# Altium schematic symbol library diodes-zener.SchLib: 7 symbols
Pins are listed as number, name and electrical type; pins without a type are passive.

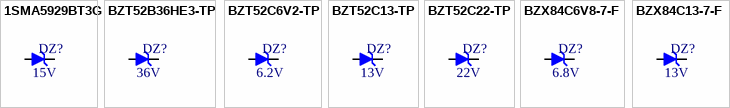
[diagram p0: symbols 1SMA5929BT3G to BZX84C13-7-F]

## 1SMA5929BT3G
designator DZ?  Volt: 15V  (hidden comment: 1SMA5929BT3G)
DIODE ZENER 15V 1.5W SMA; Precision: 5%; Grade: None; Package / Case: DO-214AC, SMA; Supplier 1: Digi-Key; Supplier Part Number 1: 1SMA5929BT3GOSCT-ND; Mounted: Yes; Watt: 1.5W; Supplier Part Number 2: 353-SMAJ5929B-TPCT-ND
footprint SMA/DO-214AC (SMA, DO-214AC. From Diode DS19005 rev 16-2)
pins: 1 A, 2 K

## BZT52B36HE3-TP
designator DZ?  Volt: 36V  (hidden comment: BZT52B36HE3-TP)
Zener Diode 36 V 410 mW ±2% Surface Mount SOD-123; Watt: 410mW; Precision: 6%; Grade: None; Package / Case: SOD-123; Supplier 1: Digi-Key; Supplier Part Number 1: 353-BZT52B36HE3-TPCT-ND; Mounted: Yes
footprint SOD-123 (SOD-123. From Diodes DDZ6V2B-7 datasheet)
pins: 1 A, 2 K

## BZT52C6V2-TP
designator DZ?  Volt: 6.2V  (hidden comment: BZT52C6V2-TP)
Zener Diode 6.2 V 200 mW ±6% Surface Mount SOD-123; Watt: 200mW; Grade: None; Package / Case: SOD-123; Supplier 1: Digi-Key; Supplier Part Number 1: BZT52C13-TPMSCT-ND; Mounted: Yes; Precision: 6%
footprint SOD-123 (SOD-123. From Diodes DDZ6V2B-7 datasheet)
pins: 1 A, 2 K

## BZT52C13-TP
designator DZ?  Volt: 13V  (hidden comment: BZT52C13-TP)
Zener Diode 13 V 200 mW ±6% Surface Mount SOD-123; Watt: 200mW; Grade: None; Package / Case: SOD-123; Supplier 1: Digi-Key; Supplier Part Number 1: BZT52C13-TPMSCT-ND; Mounted: Yes; Precision: 6%
footprint SOD-123 (SOD-123. From Diodes DDZ6V2B-7 datasheet)
pins: 1 A, 2 K

## BZT52C22-TP
designator DZ?, comment Volt: 22V  (hidden comment: BZT52C13-TP)
Zener Diode 22V 200 mW ±6% Surface Mount SOD-123; Watt: 200mW; Grade: None; Package / Case: SOD-123; Supplier 1: Digi-Key; Supplier Part Number 1: 353-MMSZ5251BHE3-TPCT-ND; Mounted: Yes; Precision: 6%
footprint SOD-123 (SOD-123. From Diodes DDZ6V2B-7 datasheet)
pins: 1 A, 2 K

## BZX84C6V8-7-F
designator DZ?  Volt: 6.8V  (hidden comment: BZX84C6V8-7-F)
Zener Diode 6.8 V 300 mW ±6% Surface Mount SOT-23-3; Watt: 300mW; Grade: None; Package / Case: SOT-23-3; Supplier 1: Digi-Key; Supplier Part Number 1: BZX84C6V8-FDICT-ND; Mounted: Yes; Precision: 6%
footprint SOT-23-3 (SOT23-3, from TI DBZ (R-PDSO-G3))
pins: 1 A, 3 K

## BZX84C13-7-F
designator DZ?  Volt: 13V  (hidden comment: BZX84C13-7-F)
Zener Diode 13 V 300 mW ±6% Surface Mount SOT-23-3; Watt: 300mW; Grade: None; Package / Case: SOT-23-3; Supplier 1: Digi-Key; Supplier Part Number 1: BZX84C13-FDICT-ND; Mounted: Yes; Precision: 6%
footprint SOT-23-3 (SOT23-3, from TI DBZ (R-PDSO-G3))
pins: 1 A, 3 K